# Altium footprint library SS312SAH4-R.PcbLib: 2 footprints
Each footprint in its own frame and in the unit in brackets; x right, y up, seen from the top. Pads: shape width x height; smd on the part's side, far side on the other; paste and mask are expansions set on the pad; w line width, h text height; cw(c..) or ccw(c..) is an arc to the next point about the centre after c.
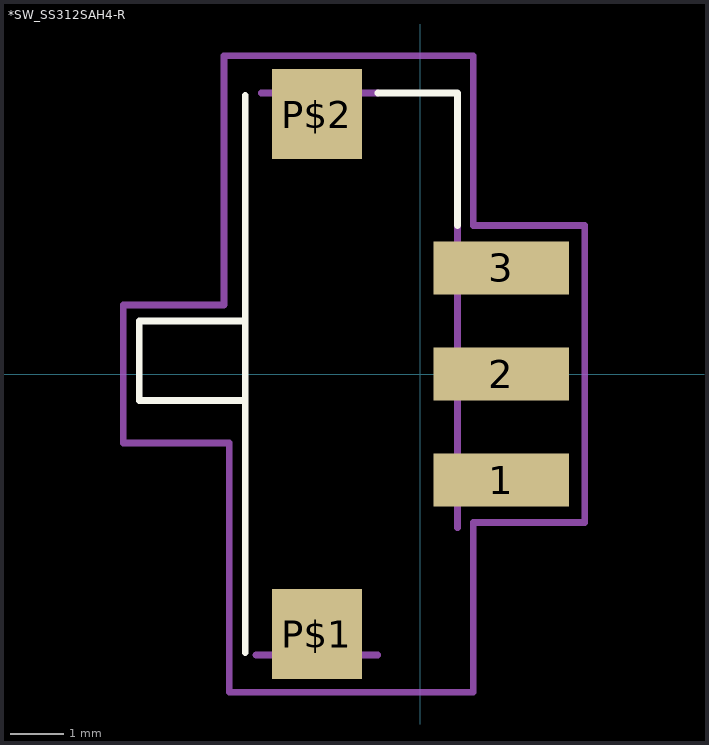
[diagram p0: the footprints below, top view; thin cyan lines are the x and y axes]

## *SW_SS312SAH4-R [mm]
pads (5):
  rect 2.55x1 smd: 1(1.525,-2) 2(1.525,0) 3(1.525,2)
  rect 1.7x1.7 smd: P$1(-1.95,-4.9) P$2(-1.95,4.9)
Top Overlay:
  lines w0.127: -3.3,-5.25 -3.3,-1 -3.3,-0.5 ; -3.3,5.25 -3.3,1 ; -0.8,5.3 0.7,5.3 0.7,2.8 ; -3.3,-0.5 -3.3,1 ; -3.3,-0.5 -5.3,-0.5 -5.3,1 -3.3,1
Mechanical 4:
  region: 0.701,2.3 2.6,2.3 2.6,1.702 0.701,1.702
  region: 0.701,0.3 2.6,0.3 2.6,-0.3 0.701,-0.3
  region: 0.7,-1.7 2.6,-1.7 2.6,-2.301 0.7,-2.301
  region: 0.701,2.3 2.6,2.3 2.6,1.702 0.701,1.702
  region: 0.701,0.3 2.6,0.3 2.6,-0.3 0.701,-0.3
  region: 0.7,-1.7 2.6,-1.7 2.6,-2.301 0.7,-2.301
  lines w0.127: -3.1,-5.3 -0.8,-5.3 -3.1,-5.3 ; -3,5.3 -0.8,5.3 -3,5.3 ; 0.7,-2.9 0.7,2.8 0.7,-2.9
Mechanical 16:
  lines w0.127: -5.6,-1.3 -5.6,1.3 -3.7,1.3 -3.7,6 1,6 1,2.8 3.1,2.8 3.1,-2.8 1,-2.8 1,-6 -3.6,-6 -3.6,-1.3 -5.6,-1.3
3D body "SS312SAH4.stp": height 3.1, standoff 0.05, extent -5.27,-5.245 2.121,5.245

## PCBComponent_1 [mm]